# Altium footprint library PCB - LEADED - SOT-23 - TOSHIBA SMV SOT-25 SC-74A.PcbLib: 1 footprints
Each footprint in its own frame and in the unit in brackets; x right, y up, seen from the top. Pads: shape width x height; smd on the part's side, far side on the other; paste and mask are expansions set on the pad; w line width, h text height; cw(c..) or ccw(c..) is an arc to the next point about the centre after c.
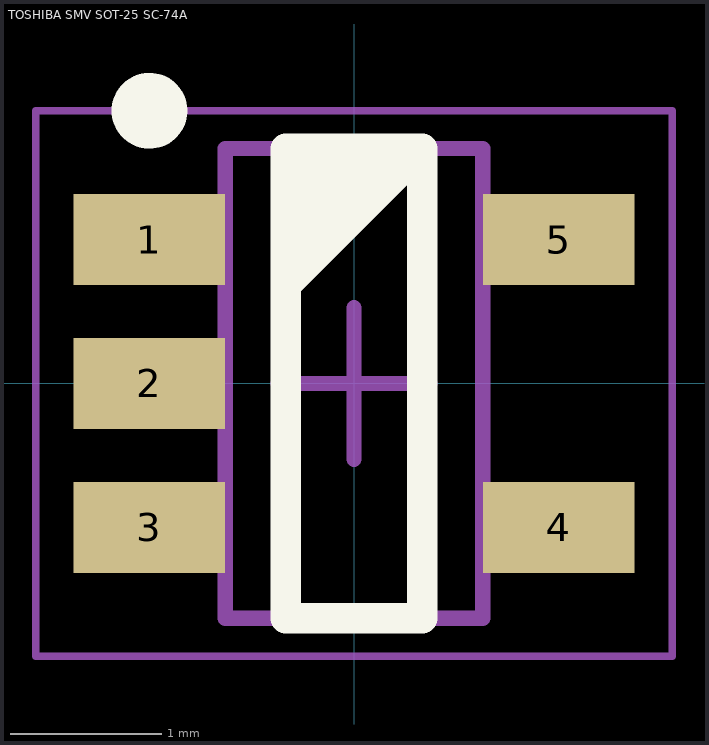
[diagram p0: the footprint, top view; thin cyan lines are the x and y axes]

## TOSHIBA SMV SOT-25 SC-74A [mm] "SC-74A, 5-Leads, Body 2.90x2.75mm, Pitch 0.95mm"
height 1.3
pads (5):
  rect 1x0.6 smd: 1(-1.35,0.95) 2(-1.35,0) 3(-1.35,-0.95) 4(1.35,-0.95) 5(1.35,0.95)
Top Overlay:
  circle w0.25: c-1.35,1.8 r0.125
  region: -0.45,0.65 0.45,1.55 -0.45,1.55
  lines w0.2: -0.45,0.65 -0.45,1.55 0.45,1.55 ; -0.45,0.65 -0.45,-1.55 0.45,-1.55 0.45,1.55 ; -0.45,0.65 0.45,1.55
Mechanical 13:
  lines w0.1: -0.85,-1.55 -0.85,1.55 0.85,1.55 0.85,-1.55 -0.85,-1.55
Mechanical 15:
  lines w0.05: -2.1,-1.8 -2.1,1.8 2.1,1.8 2.1,-1.8 -2.1,-1.8
  lines w0.1: -0.5,0 0.5,0 ; 0,-0.5 0,0.5
3D body "TOSHIBA SMV SOT-25 SC-74A.step": height 1.3, standoff 0, extent -1.5,-1.55 1.5,1.55